# Altium integrated library BNC7T-J-P-XX-RA-BH1.IntLib: 1 symbol
Pins are listed as number, name and electrical type; pins without a type are passive.

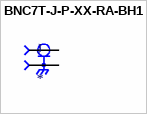
[diagram p0: symbol BNC7T-J-P-XX-RA-BH1]

## BNC7T-J-P-XX-RA-BH1
designator J
BNC Connector Jack, Female Socket 75Ohm Panel Mount, Through Hole, Right Angle Solder; MP: BNC7T-J-P-HN-RA-BH1; MF: Samtec; Package: None; DigiKey-Purchase-URL: https://snapeda.com/shop?store=DigiKey&id=608953; Price: None; Availability: Unavailable; Value: *; Toby_UK-Purchase-URL: https://snapeda.com/shop?store=Toby+UK&id=608953; Mouser-Purchase-URL: https://snapeda.com/shop?store=Mouser&id=608953; SnapEDA_Link: https://www.snapeda.com/parts/BNC7T-J-P-HN-RA-BH1/Samtec%20Inc./view-part/608953/?ref=snap
footprint SAMTEC_BNC7T-J-P-XX-RA-BH1
pins: 1, S1 2, S2 2, S3 2, S4 2